# Altium footprint library VQFN-40_6x6x05P.PcbLib: 1 footprints
Each footprint in its own frame and in the unit in brackets; x right, y up, seen from the top. Pads: shape width x height; smd on the part's side, far side on the other; paste and mask are expansions set on the pad; w line width, h text height; cw(c..) or ccw(c..) is an arc to the next point about the centre after c.
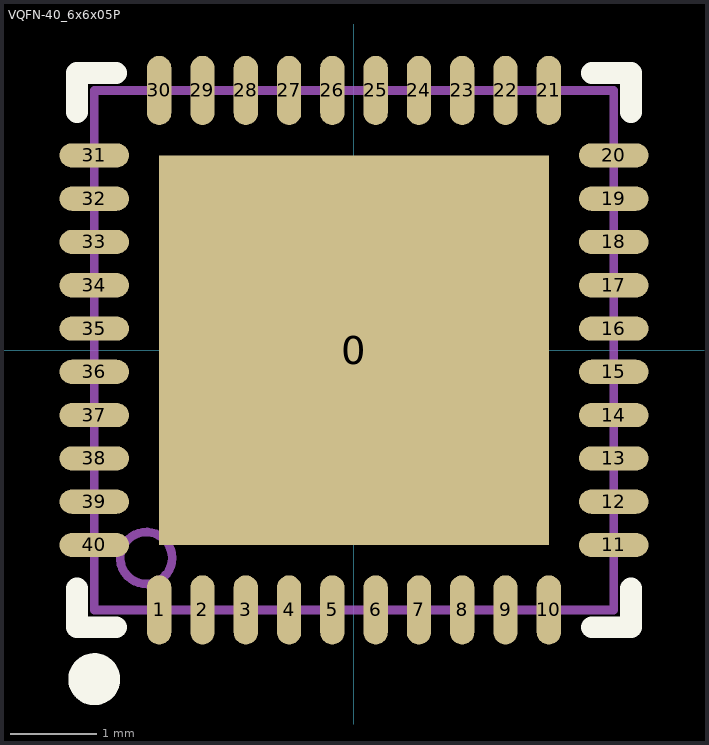
[diagram p0: the footprint, top view; thin cyan lines are the x and y axes]

## VQFN-40_6x6x05P [mm]
pads (41):
  rect 4.5x4.5 smd mask+0.051: 0(0,0)
  oval 0.28x0.8 smd mask+0.051: 1(-2.25,-3) 2(-1.75,-3) 3(-1.25,-3) 4(-0.75,-3) 5(-0.25,-3) 6(0.25,-3) 7(0.75,-3) 8(1.25,-3) 9(1.75,-3) 10(2.25,-3) 21(2.25,3) 22(1.75,3) 23(1.25,3) 24(0.75,3) 25(0.25,3) 26(-0.25,3) 27(-0.75,3) 28(-1.25,3) 29(-1.75,3) 30(-2.25,3)
  oval 0.8x0.28 smd mask+0.051: 11(3,-2.25) 12(3,-1.75) 13(3,-1.25) 14(3,-0.75) 15(3,-0.25) 16(3,0.25) 17(3,0.75) 18(3,1.25) 19(3,1.75) 20(3,2.25) 31(-3,2.25) 32(-3,1.75) 33(-3,1.25) 34(-3,0.75) 35(-3,0.25) 36(-3,-0.25) 37(-3,-0.75) 38(-3,-1.25) 39(-3,-1.75) 40(-3,-2.25)
Top Overlay:
  circle w0.3: c-3,-3.8 r0.15
  lines w0.254: -3.2,-2.75 -3.2,-3.2 -2.75,-3.2 ; -3.2,2.75 -3.2,3.2 -2.75,3.2 ; 2.75,-3.2 3.2,-3.2 3.2,-2.75 ; 2.75,3.2 3.2,3.2 3.2,2.75
Mechanical 13:
  circle w0.1: c-2.4,-2.4 r0.3
  lines w0.1: -3,-3 3,-3 3,3 -3,3 -3,-3